# Altium footprint library IQXT-350.PcbLib: 1 footprints
Each footprint in its own frame and in the unit in brackets; x right, y up, seen from the top. Pads: shape width x height; smd on the part's side, far side on the other; paste and mask are expansions set on the pad; w line width, h text height; cw(c..) or ccw(c..) is an arc to the next point about the centre after c.
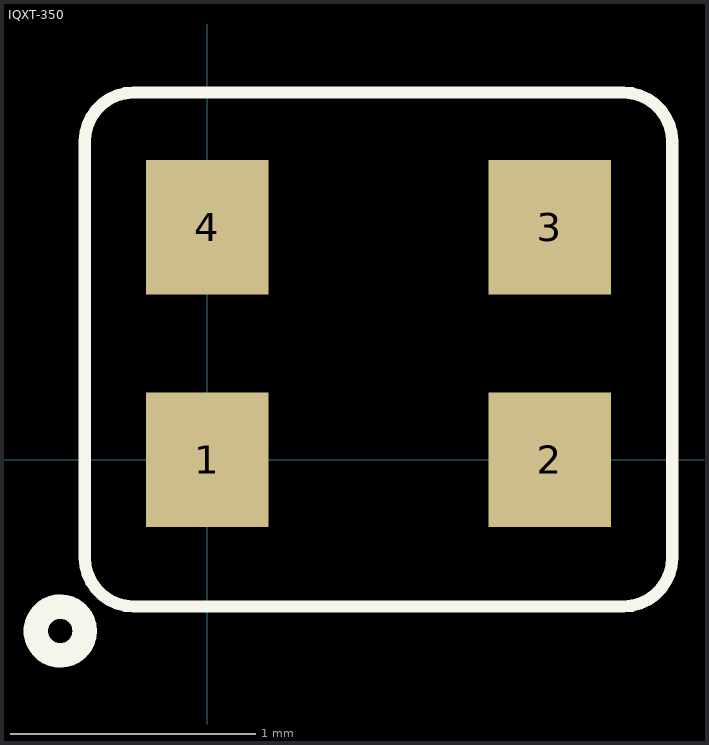
[diagram p0: the footprint, top view; thin cyan lines are the x and y axes]

## IQXT-350 [mm]
pads (4):
  rect 0.5x0.55 smd: 1(0,0) 2(1.4,0) 3(1.4,0.95) 4(0,0.95)
Top Overlay:
  circle w0.1: c-0.6,-0.7 r0.1
  lines w0.05: -0.5,-0.4 ccw(c-0.3,-0.4) -0.3,-0.6 1.7,-0.6 ccw(c1.7,-0.4) 1.9,-0.4 1.9,1.3 ccw(c1.7,1.3) 1.7,1.5 -0.3,1.5 ccw(c-0.3,1.3) -0.5,1.3 -0.5,-0.4
3D body: height 0.52, standoff 0, extent 0.101,0 0.3,0.2
3D body: height 0.5, standoff 0, extent -0.05,-0.1 1.425,1.05
3D body: height 0.45, standoff 0, extent -0.125,-0.175 1.5,1.125